# Altium footprint library SparkFun-DigitalIC.PCBLIB: 112 footprints (part 5 of 7)
Each footprint in its own frame and in the unit in brackets; x right, y up, seen from the top. Pads: shape width x height; smd on the part's side, far side on the other; paste and mask are expansions set on the pad; w line width, h text height; cw(c..) or ccw(c..) is an arc to the next point about the centre after c.
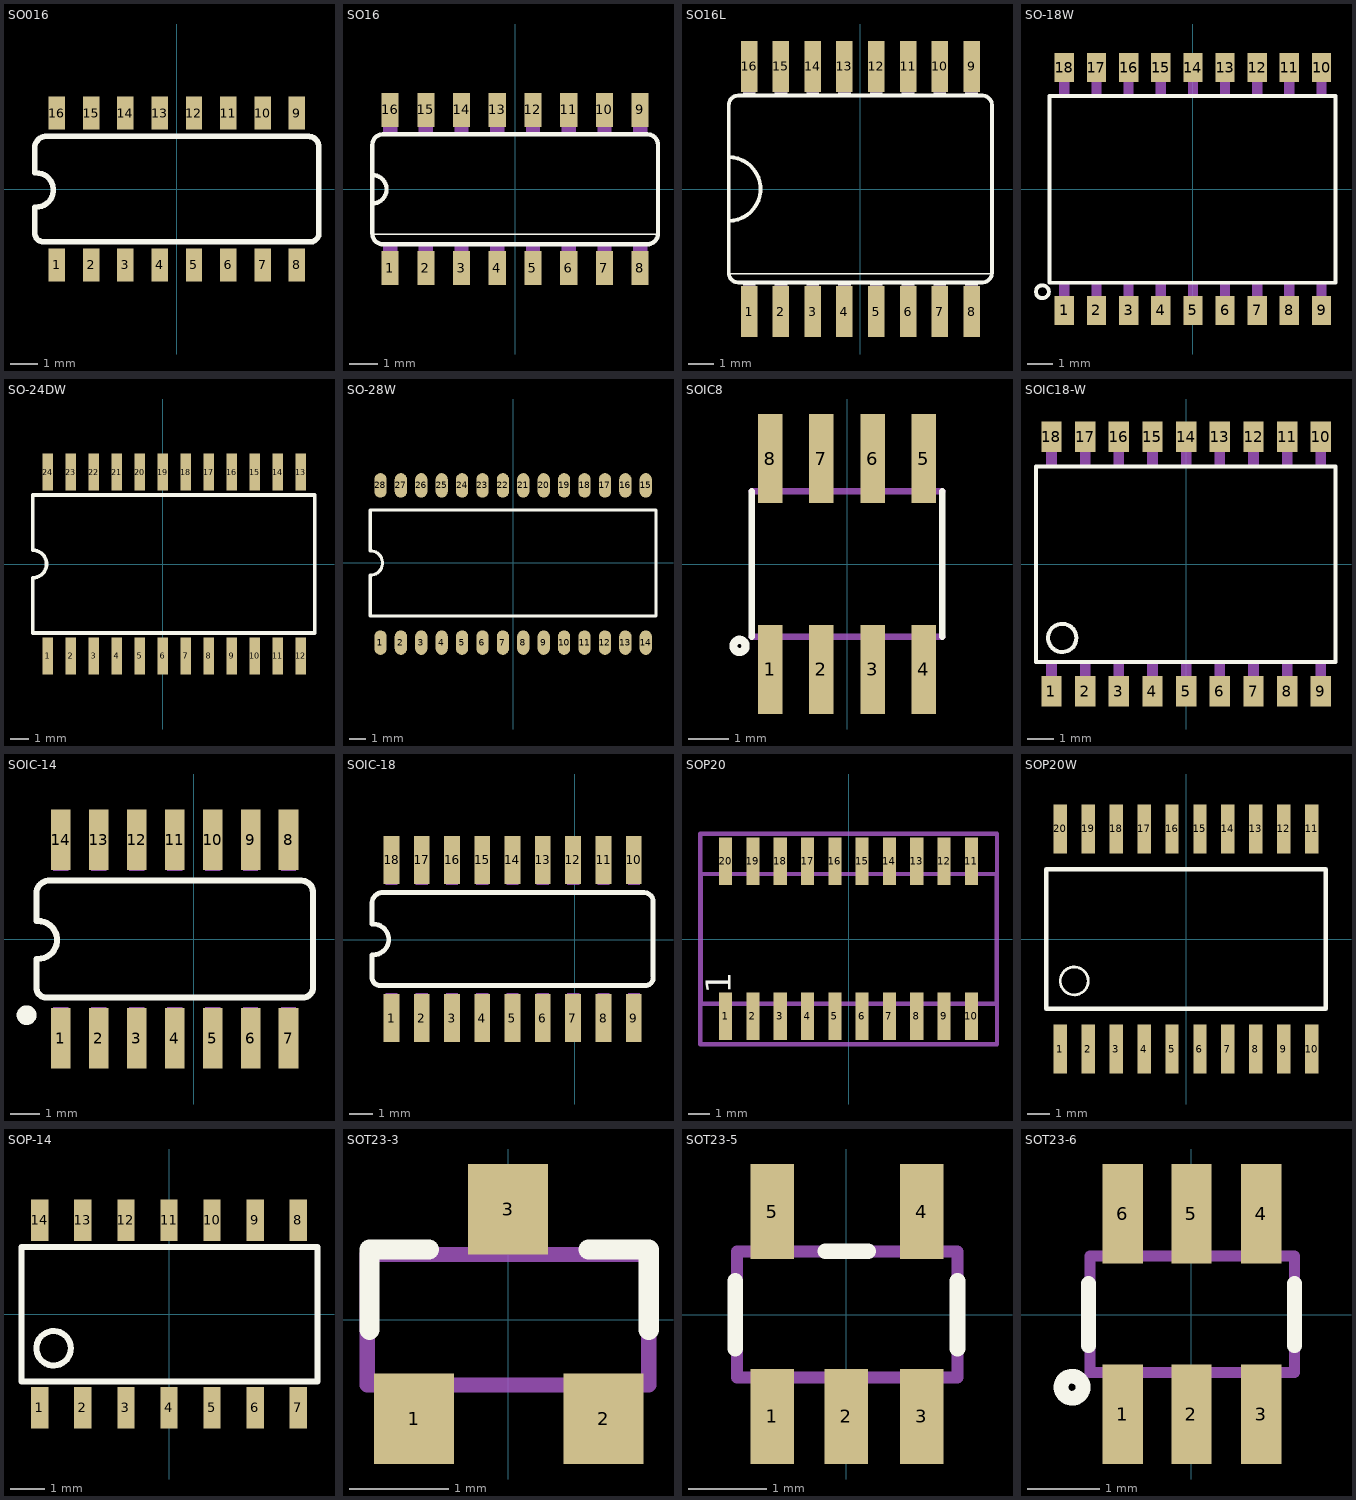
[diagram p4: the footprints below, top view; thin cyan lines are the x and y axes]

## SO016 [mil]
pads (16):
  rect 24x48 smd: 1(-175,-110.24) 2(-125,-110.24) 3(-75,-110.24) 4(-25,-110.24) 5(25,-110.24) 6(75,-110.24) 7(125,-110.24) 8(175,-110.24) 9(175,111) 10(125,111) 11(75,111) 12(25,111) 13(-25,111) 14(-75,111) 15(-125,111) 16(-175,111)
Top Overlay:
  lines w8: -207,-26 -207,-65.56 ccw(c-193.97,-63.6) -192,-76.63 196,-76.63 ccw(c194,-63.63) 207,-61.63 207,62 ccw(c192,62) 192,77 -192,77 ccw(c-190,60) -207,58 -207,24 ; -205,-26 ccw(c-205,-1) -205,24
Mechanical 2:
  text ">NAME" at -150,0 h37.2
Mechanical 4:
  text ">VALUE" at -150,-50 h37.2
Mechanical 16:
  rectangle: -185,-130 -165,-89.5
  rectangle: -135,-130 -115,-89.5
  rectangle: -85,-130 -65,-89.5
  rectangle: -35,-130 -15,-89.5
  rectangle: 15,-130 35,-89.5
  rectangle: 65,-130 85,-89.5
  rectangle: 115,-130 135,-89.5
  rectangle: 165,-130 185,-89.5
  rectangle: -185,90 -165,133
  rectangle: -135,90 -115,130
  rectangle: -85,90 -65,130
  rectangle: -35,90 -15,130
  rectangle: 15,90 35,130
  rectangle: 65,90 85,130
  rectangle: 115,90 135,130
  rectangle: 165,90 185,130

## SO16 [mil]
pads (16):
  rect 24x48 smd: 1(-175,-110.24) 2(-125,-110.24) 3(-75,-110.24) 4(-25,-110.24) 5(25,-110.24) 6(75,-110.24) 7(125,-110.24) 8(175,-110.24) 9(175,111) 10(125,111) 11(75,111) 12(25,111) 13(-25,111) 14(-75,111) 15(-125,111) 16(-175,111)
Top Overlay:
  lines w2: -200,-63 200,-63
  lines w6: -200,-20 -200,20 ; -200,-20 -200,-62 ccw(c-185,-62) -185,-77 185,-77 ccw(c185,-62) 200,-62 200,62 ccw(c185,62) 185,77 -185,77 ccw(c-185,62) -200,62 -200,20 ; -200,-20 ccw(c-200,0) -200,20
Mechanical 2:
  text ">NAME" at -215,-70 h77.5
Mechanical 4:
  text ">VALUE" at -160,-25 h77.5
Mechanical 16:
  rectangle: -35,77 -15,122
  rectangle: -185,-122 -165,-77
  rectangle: -135,-122 -115,-77
  rectangle: -85,-121 -65,-76
  rectangle: -35,-122 -15,-77
  rectangle: -85,77 -65,122
  rectangle: -135,77 -115,122
  rectangle: -185,77 -165,122
  rectangle: 15,-122 35,-77
  rectangle: 65,-122 85,-77
  rectangle: 115,-122 135,-77
  rectangle: 165,-122 185,-77
  rectangle: 15,77 35,122
  rectangle: 65,77 85,122
  rectangle: 115,77 135,122
  rectangle: 165,77 185,122

## SO16L [mil]
pads (16):
  rect 26x80 smd: 1(-175,-193) 2(-125,-193) 3(-75,-193) 4(-25,-193) 5(25,-193) 6(75,-193) 7(125,-193) 8(175,-193) 9(175,193) 10(125,193) 11(75,193) 12(25,193) 13(-25,193) 14(-75,193) 15(-125,193) 16(-175,193)
Top Overlay:
  rectangle: -185,-152 -165,-147
  rectangle: -135,-152 -115,-147
  rectangle: -85,-152 -65,-147
  rectangle: -35,-152 -15,-147
  rectangle: 15,-152 35,-147
  rectangle: 65,-152 85,-147
  rectangle: 115,-152 135,-147
  rectangle: 165,-152 185,-147
  rectangle: -185,147 -165,152
  rectangle: -135,147 -115,152
  rectangle: -85,147 -65,152
  rectangle: -35,147 -15,152
  rectangle: 15,147 35,152
  rectangle: 65,147 85,152
  rectangle: 115,147 135,152
  rectangle: 165,147 185,152
  lines w2: -205,-133 206,-133
  lines w6: -207,-50 ccw(c-207,0) -207,50 ; -207,-132 ccw(c-192,-132) -192,-147 192,-147 ccw(c192,-132) 207,-132 207,132 ccw(c192,132) 192,147 -192,147 ccw(c-192,132) -207,132 -207,-132
Mechanical 2:
  text ">NAME" at -220,-140 h77.5
Mechanical 4:
  text ">VALUE" at -140,-30 h77.5
Mechanical 16:
  rectangle: -185,-210 -165,-152
  rectangle: -135,-210 -115,-152
  rectangle: -85,-210 -65,-152
  rectangle: -35,-210 -15,-152
  rectangle: 15,-210 35,-152
  rectangle: 65,-210 85,-152
  rectangle: 115,-210 135,-152
  rectangle: 165,-210 185,-152
  rectangle: -185,152 -165,210
  rectangle: -135,152 -115,210
  rectangle: -85,152 -65,210
  rectangle: -35,152 -15,210
  rectangle: 15,152 35,210
  rectangle: 65,152 85,210
  rectangle: 115,152 135,210
  rectangle: 165,152 185,210

## SO-18W [mil]
pads (18):
  rect 30x45 smd: 1(-200,-188.5) 2(-150,-188.5) 3(-100,-188.5) 4(-50,-188.5) 5(0,-188.5) 6(50,-188.5) 7(100,-188.5) 8(150,-188.5) 9(200,-188.5) 10(200,189) 11(150,189) 12(100,189) 13(50,189) 14(0,189) 15(-50,189) 16(-100,189) 17(-150,189) 18(-200,189)
Top Overlay:
  circle w6: c-234,-159.5 r10
  lines w6: -223,-145.5 222,-145.5 222,145 -223,145 -223,-145.5
Mechanical 2:
  text ">NAME" at -238.5,-150 h108.5
Mechanical 4:
  text ">VALUE" at 312,-150 h108.5
Mechanical 16:
  rectangle: 192,147 208,200
  rectangle: 142,147 158,200
  rectangle: 92,147 108,200
  rectangle: 42,147 58,200
  rectangle: -8,147 8,200
  rectangle: -58,147 -42,200
  rectangle: -108,147 -92,200
  rectangle: -158,147 -142,200
  rectangle: -208,147 -192,200
  rectangle: -208,-200.5 -192,-147.5
  rectangle: -158,-200.5 -142,-147.5
  rectangle: -108,-200.5 -92,-147.5
  rectangle: -58,-200.5 -42,-147.5
  rectangle: -8,-200.5 8,-147.5
  rectangle: 42,-200.5 58,-147.5
  rectangle: 92,-200.5 108,-147.5
  rectangle: 142,-200.5 158,-147.5
  rectangle: 192,-200.5 208,-147.5

## SO-24DW [mil]
pads (24):
  rect 23x80 smd: 1(-250,-200) 2(-200,-200) 3(-150,-200) 4(-100,-200) 5(-50,-200) 6(0,-200) 7(50,-200) 8(100,-200) 9(150,-200) 10(200,-200) 11(250,-200) 12(300,-200) 13(300,200) 14(250,200) 15(200,200) 16(150,200) 17(100,200) 18(50,200) 19(0,200) 20(-50,200) 21(-100,200) 22(-150,200) 23(-200,200) 24(-250,200)
Top Overlay:
  lines w8: -283,-150 331,-150 331,150 -283,150 -283,30 cw(c-283,0) -283,-30 -283,-150
Mechanical 2:
  text ">NAME" at -200,100 h24.8
Mechanical 4:
  text ">VALUE" at -200,-100 h24.8

## SO-28W [mil]
pads (28):
  rrect100% 30x60 smd: 1(-325,-195) 2(-275,-195) 3(-225,-195) 4(-175,-195) 5(-125,-195) 6(-75,-195) 7(-25,-195) 8(25,-195) 9(75,-195) 10(125,-195) 11(175,-195) 12(225,-195) 13(275,-195) 14(325,-195) 15(325,190) 16(275,190) 17(225,190) 18(175,190) 19(125,190) 20(75,190) 21(25,190) 22(-25,190) 23(-75,190) 24(-125,190) 25(-175,190) 26(-225,190) 27(-275,190) 28(-325,190)
Top Overlay:
  lines w8: -350,-130 350,-130 350,130 -350,130 -350,30 cw(c-350,0) -350,-30 -350,-130
Mechanical 2:
  text ">NAME" at -320,80 h24.8
Mechanical 4:
  text ">VALUE" at -320,-100 h24.8

## SOIC8 [mil]
pads (8):
  rect 24x87 smd: 1(-75,-103) 2(-25,-103) 3(25,-103) 4(75,-103) 5(75,103) 6(25,103) 7(-25,103) 8(-75,103)
Top Overlay:
  circle w8: c-105,-80 r6
  lines w6: -92.99,-70.98 -92.99,71 ; 93,-70.98 93,71
Mechanical 2:
  text ">NAME" at -50,0 h24.8
Mechanical 4:
  text ">VALUE" at -50,-25 h24.8
Mechanical 16:
  rectangle: -82,-113 -68,-73
  rectangle: -32,-113 -18,-73
  rectangle: 18,-113 32,-73
  rectangle: 68,-113 82,-73
  rectangle: -82,73 -68,113
  rectangle: -32,73 -18,113
  rectangle: 18,73 32,113
  rectangle: 68,73 82,113
  lines w6: -92.99,-70.98 93,-70.98 ; -92.99,71 93,71

## SOIC18-W [mil]
pads (18):
  rect 30x45 smd: 1(-200,-188.5) 2(-150,-188.5) 3(-100,-188.5) 4(-50,-188.5) 5(0,-188.5) 6(50,-188.5) 7(100,-188.5) 8(150,-188.5) 9(200,-188.5) 10(200,189) 11(150,189) 12(100,189) 13(50,189) 14(0,189) 15(-50,189) 16(-100,189) 17(-150,189) 18(-200,189)
Top Overlay:
  circle w6: c-184,-109.5 r21
  lines w6: -223,-145.5 222,-145.5 222,145 -223,145 -223,-145.5
Mechanical 2:
  text ">NAME" at -238.5,-150 h108.5
Mechanical 4:
  text ">VALUE" at 312,-150 h108.5
Mechanical 16:
  rectangle: 192,147 208,200
  rectangle: 142,147 158,200
  rectangle: 92,147 108,200
  rectangle: 42,147 58,200
  rectangle: -8,147 8,200
  rectangle: -58,147 -42,200
  rectangle: -108,147 -92,200
  rectangle: -158,147 -142,200
  rectangle: -208,147 -192,200
  rectangle: -208,-200.5 -192,-147.5
  rectangle: -158,-200.5 -142,-147.5
  rectangle: -108,-200.5 -92,-147.5
  rectangle: -58,-200.5 -42,-147.5
  rectangle: -8,-200.5 8,-147.5
  rectangle: 42,-200.5 58,-147.5
  rectangle: 92,-200.5 108,-147.5
  rectangle: 142,-200.5 158,-147.5
  rectangle: 192,-200.5 208,-147.5

## SOIC-14 [mil]
pads (14):
  rect 26x80 smd: 1(-175,-130.5) 2(-125,-130.5) 3(-75,-130.5) 4(-25,-130.5) 5(25,-130.5) 6(75,-130.5) 7(125,-130.5) 8(125,131) 9(75,131) 10(25,131) 11(-25,131) 12(-75,131) 13(-125,131) 14(-175,131)
Top Overlay:
  circle w16: c-220,-100 r5
  lines w8: -207,-26 -207,-65.56 ccw(c-193.97,-63.6) -192,-76.63 146,-76.63 ccw(c144,-63.63) 157,-61.63 157,62 ccw(c142,62) 142,77 -192,77 ccw(c-190,60) -207,58 -207,24 ; -205,-26 ccw(c-205,-1) -205,24
Mechanical 2:
  text ">NAME" at -220,-77.5 h27.2
Mechanical 4:
  text ">VALUE" at 200,-75 h27.2
Mechanical 16:
  rectangle: -185,-147.5 -165,-89.5
  rectangle: -135,-147.5 -115,-89.5
  rectangle: -85,-147.5 -65,-89.5
  rectangle: -35,-147.5 -15,-89.5
  rectangle: 15,-147.5 35,-89.5
  rectangle: 65,-147.5 85,-89.5
  rectangle: 115,-147.5 135,-89.5
  rectangle: -185,90 -165,148
  rectangle: -135,90 -115,148
  rectangle: -85,90 -65,148
  rectangle: -35,90 -15,148
  rectangle: 15,90 35,148
  rectangle: 65,90 85,148
  rectangle: 115,90 135,148

## SOIC-18 [mil]
pads (18):
  rect 26x80 smd: 1(-302.56,-129.32) 2(-252.56,-129.32) 3(-202.56,-129.32) 4(-152.56,-129.32) 5(-102.56,-129.32) 6(-52.56,-129.32) 7(-2.56,-129.32) 8(48,-129.32) 9(98,-129.32) 10(98,132) 11(48,132) 12(-2.56,132) 13(-52.56,132) 14(-102.56,132) 15(-152.56,132) 16(-202.56,132) 17(-252.56,132) 18(-302.56,132)
Top Overlay:
  lines w8: -334.56,-24.82 -334.56,-64.38 ccw(c-321.53,-62.42) -319.56,-75.44 119,-75.44 ccw(c117,-62.44) 130,-60.44 130,63 ccw(c115,63) 115,78 -319.56,78 ccw(c-317.56,61) -334.56,59 -334.56,26 ; -332.56,-24.82 ccw(c-332.56,0.59) -332.56,26
Mechanical 2:
  text ">Name" at -370,-102.5 h77.5
  text ">Value" at 205,-138.13 h77.5
Mechanical 16:
  rectangle: -312.56,-148.82 -292.56,-88.32
  rectangle: -262.56,-146.32 -242.56,-88.32
  rectangle: -212.56,-146.32 -192.56,-88.32
  rectangle: -162.56,-146.32 -142.56,-88.32
  rectangle: -112.56,-146.32 -92.56,-88.32
  rectangle: -62.56,-146.32 -42.56,-88.32
  rectangle: -12.56,-146.32 8,-88.32
  rectangle: -312.56,91 -292.56,149
  rectangle: -262.56,91 -242.56,149
  rectangle: -212.56,91 -192.56,149
  rectangle: -162.56,91 -142.56,149
  rectangle: -112.56,91 -92.56,149
  rectangle: -62.56,91 -42.56,149
  rectangle: -12.56,91 8,149
  rectangle: 38,-148.82 58,-88.32
  rectangle: 88,-146.32 108,-88.32
  rectangle: 38,91 58,149
  rectangle: 88,91 108,149

## SOP20 [mil]
pads (20):
  rect 24x87 smd: 1(-225,-141.73) 2(-175,-141.73) 3(-125,-141.73) 4(-75,-141.73) 5(-25,-141.73) 6(25,-141.73) 7(75,-141.73) 8(125,-141.73) 9(175,-141.73) 10(225,-141.73) 11(225,142) 12(175,142) 13(125,142) 14(75,142) 15(25,142) 16(-25,142) 17(-75,142) 18(-125,142) 19(-175,142) 20(-225,142)
Top Overlay:
  text "1" at -200,-100 h77.5
Mechanical 2:
  text ">NAME" at -225,25 h77.5
Mechanical 4:
  text ">VALUE" at -225,-75 h77.5
Mechanical 16:
  rectangle: -234.84,-174.8 -215.16,-122.44
  rectangle: -184.84,-174.8 -165.16,-122.44
  rectangle: -134.84,-174.8 -115.16,-122.44
  rectangle: -84.84,-174.8 -65.16,-122.44
  rectangle: -34.84,-174.8 -15.16,-122.44
  rectangle: 16,-174.8 35,-122.44
  rectangle: 66,-174.8 85,-122.44
  rectangle: 116,-174.8 135,-122.44
  rectangle: 166,-174.8 185,-122.44
  rectangle: 216,-174.8 235,-122.44
  rectangle: 216,123 235,175
  rectangle: 166,123 185,175
  rectangle: 116,123 135,175
  rectangle: 66,123 85,175
  rectangle: 16,123 35,175
  rectangle: -34.84,123 -15.16,175
  rectangle: -84.84,123 -65.16,175
  rectangle: -134.84,123 -115.16,175
  rectangle: -184.84,123 -165.16,175
  rectangle: -234.84,123 -215.16,175
  lines w8: -270.87,-118.5 271,-118.5 271,119 -270.87,119 -270.87,-118.5
Mechanical 27:
  lines w8: -271.65,-192.91 -271.65,193 272,193 272,-192.91 -271.65,-192.91

## SOP20W [mil]
pads (20):
  rect 24x87 smd: 1(-225,-196.85) 2(-175,-196.85) 3(-125,-196.85) 4(-75,-196.85) 5(-25,-196.85) 6(25,-196.85) 7(75,-196.85) 8(125,-196.85) 9(175,-196.85) 10(225,-196.85) 11(225,197) 12(175,197) 13(125,197) 14(75,197) 15(25,197) 16(-25,197) 17(-75,197) 18(-125,197) 19(-175,197) 20(-225,197)
Top Overlay:
  circle w5: c-200,-75 r25
  lines w8: -250,-125 250,-125 250,125 -250,125 -250,-125
Mechanical 2:
  text ">NAME" at -225,25 h77.5
Mechanical 4:
  text ">VALUE" at -225,-75 h77.5

## SOP-14 [mil]
pads (14):
  rect 20x48 smd: 1(-150,-108.27) 2(-100,-108.27) 3(-50,-108.27) 4(0,-108.27) 5(50,-108.27) 6(100,-108.27) 7(150,-108.27) 8(150,109) 9(100,109) 10(50,109) 11(0,109) 12(-50,109) 13(-100,109) 14(-150,109)
Top Overlay:
  circle w7: c-133.86,-39.37 r20
  lines w7: -171.26,-77.76 172,-77.76 172,78 -171.26,78 -171.26,-77.76
Mechanical 2:
  text ">Name" at 170,60 h62
Mechanical 4:
  text ">Value" at 170,-20 h62
Mechanical 16:
  rectangle: -7.87,95 8,119
  rectangle: -57.87,95 -42.13,119
  rectangle: -107.87,95 -92.13,119
  rectangle: -157.87,95 -142.13,119
  rectangle: 43,95 58,119
  rectangle: 93,95 108,119
  rectangle: 143,95 158,119
  region: -142.13,-94.49 -157.87,-94.49 -157.87,-118.11 -142.13,-118.11
  region: -92.13,-94.49 -107.87,-94.49 -107.87,-118.11 -92.13,-118.11
  region: -42.13,-94.49 -57.87,-94.49 -57.87,-118.11 -42.13,-118.11
  region: 8,-94.49 -7.87,-94.49 -7.87,-118.11 8,-118.11
  region: 58,-94.49 43,-94.49 43,-118.11 58,-118.11
  region: 108,-94.49 93,-94.49 93,-118.11 108,-118.11
  region: 158,-94.49 143,-94.49 143,-118.11 158,-118.11

## SOT23-3 [mil]
pads (3):
  rect 32x36 smd: 1(-37.4,-39.37) 2(38,-39.37) 3(0,44)
Top Overlay:
  lines w8: -55.12,-3.94 -55.12,28 -31.5,28 ; 32,28 56,28 56,-3.94
Mechanical 2:
  text ">NAME" at -32.5,70 h24.8
Mechanical 4:
  text ">VALUE" at -40,-7.5 h24.8
Mechanical 16:
  lines w6: -56,-26 56,-26 56,26 -56,26 -56,-26

## SOT23-5 [mil]
pads (5):
  rect 22x48 smd: 1(-37.4,-51.19) 2(0,-51.19) 3(38,-51.19) 4(38,52) 5(-37.4,52)
Top Overlay:
  lines w8: -56,-16.91 -56,17 ; -10.57,32 11,32 ; 56,-16.91 56,17
Mechanical 2:
  text ">NAME" at -35,85 h13.6
Mechanical 4:
  text ">VALUE" at -37.5,-7.5 h24.8
Mechanical 16:
  rectangle: -47.24,-59.06 -27.56,-33.46
  rectangle: -9.84,-59.06 10,-33.46
  rectangle: 28,-59.06 48,-33.46
  rectangle: 28,34 48,60
  rectangle: -47.24,34 -27.56,60
  lines w6: -55.12,-31.5 56,-31.5 56,32 -55.12,32 -55.12,-31.5

## SOT23-6 [mil]
pads (6):
  rect 22x54 smd: 1(-37.4,-54.14) 2(0,-54.14) 3(38,-54.14) 4(38,55) 5(0,55) 6(-37.4,55)
Top Overlay:
  circle w8: c-64.96,-39.37 r6
  lines w8: -56,-16.91 -56,17 ; 56,-16.91 56,17
Mechanical 2:
  text ">NAME" at -35,85 h24.8
Mechanical 4:
  text ">VALUE" at -41.44,1 h24.8
Mechanical 16:
  rectangle: -47.24,-59.06 -27.56,-33.46
  rectangle: -9.84,-59.06 10,-33.46
  rectangle: 28,-59.06 48,-33.46
  rectangle: 28,34 48,60
  rectangle: -47.24,34 -27.56,60
  rectangle: -9.84,34 10,60
  lines w6: -55.12,-31.5 56,-31.5 56,32 -55.12,32 -55.12,-31.5